# Altium footprint library Movandi_PcbLib1.PcbLib: 7 footprints
Each footprint in its own frame and in the unit in brackets; x right, y up, seen from the top. Pads: shape width x height; smd on the part's side, far side on the other; paste and mask are expansions set on the pad; w line width, h text height; cw(c..) or ccw(c..) is an arc to the next point about the centre after c.
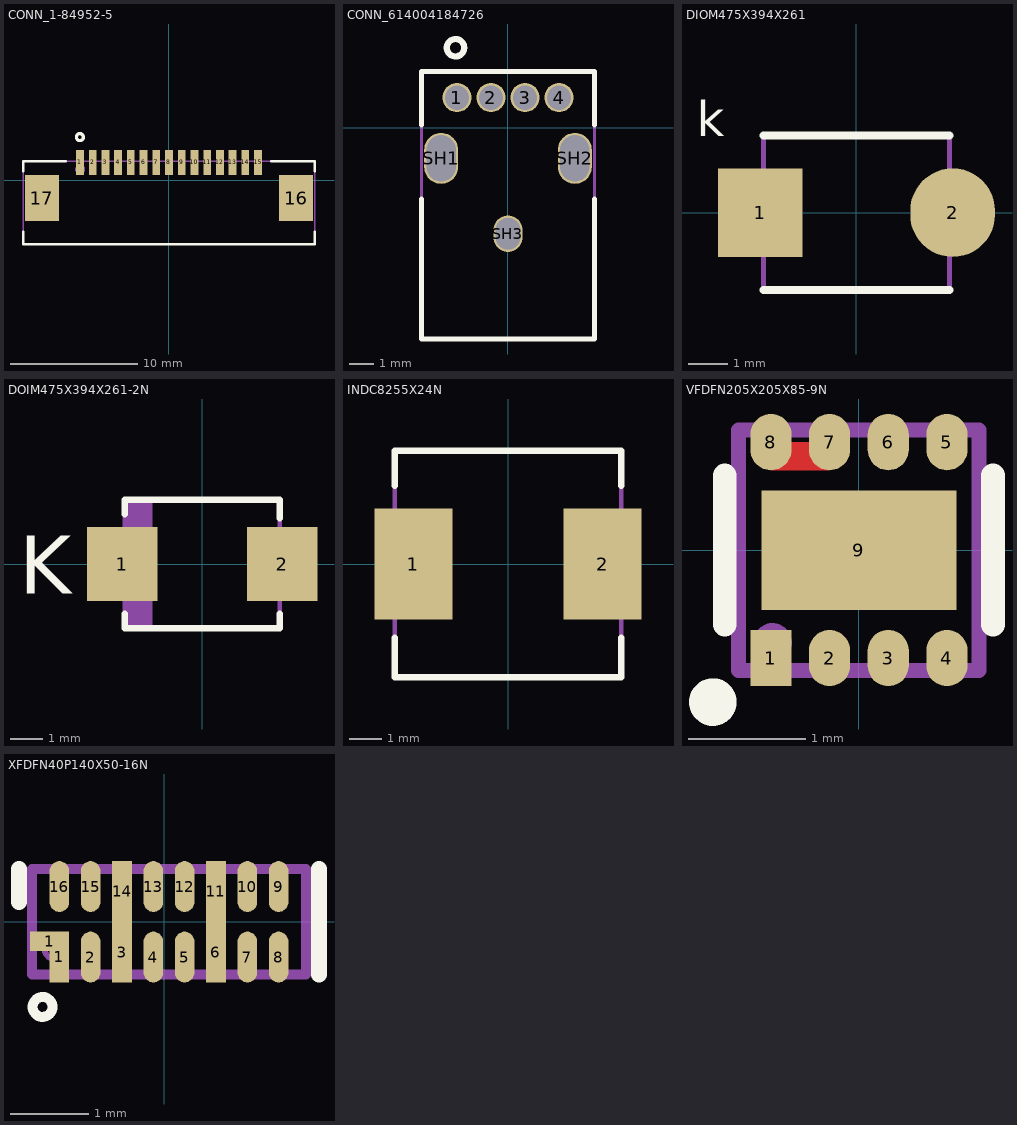
[diagram p0: the footprints below, top view; thin cyan lines are the x and y axes]

## CONN_1-84952-5 [mm]
height 2.56
pads (17):
  rect 0.61x2 smd: 1(-7,1.4) 2(-6,1.4) 3(-5,1.4) 4(-4,1.4) 5(-3,1.4) 6(-2,1.4) 7(-1,1.4) 8(0,1.4) 9(1,1.4) 10(2,1.4) 11(3,1.4) 12(4,1.4) 13(5,1.4) 14(6,1.4) 15(7,1.4)
  rect 2.68x3.6 smd: 16(9.99,-1.4) 17(-9.99,-1.4)
Top Overlay:
  circle w0.254: c-7.005,3.397 r0.274
  lines w0.203: -11.452,-4.03 -11.452,-5.037 ; -11.452,0.727 -11.452,1.495 -8.107,1.495 ; 8.058,1.495 11.458,1.495 11.458,0.727 ; 11.458,-4.03 11.458,-5.037 -11.452,-5.037 ; -11.452,-5.037 -11.452,-5.037
Outline:
  text "'.Designator'" at 0,0.191 h1.02
Courtyard Top:
  circle w0.254: c-6.987,0.86 r0.274
  lines w0.127: -11.452,-5.037 11.458,-5.037 11.458,1.495 -11.452,1.495 -11.452,-5.037 ; -11.452,-5.037 -11.452,-5.037
3D body: height 2.52, standoff -0.04, extent -11.454,-5.045 11.466,1.495

## CONN_614004184726 [mm]
height 14.2
pads (7):
  round 1.2 hole 1: 1(-2.1,1.25) 2(-0.7,1.25) 3(0.7,1.25) 4(2.1,1.25)
  oval 1.4x2.1 hole 1.2 slot 1.9 at 90 deg: SH1(-2.75,-1.25) SH2(2.75,-1.25)
  oval 1.2x1.5 hole 1 slot 1.3 at 90 deg: SH3(0,-4.35)
Top Overlay:
  circle w0.254: c-2.159,3.302 r0.359
  lines w0.203: -3.559,-2.921 -3.559,-8.682 3.559,-8.682 3.559,-2.921 ; -3.559,0.127 -3.559,2.318 3.559,2.318 3.559,0.127
Outline:
  text "'.Designator'" at 0,0.191 h1.02
Courtyard Top:
  circle w0.254: c-2.1,1.25 r0.359
  lines w0.127: -3.559,-8.682 -3.559,2.318 3.559,2.318 3.559,-8.682 -3.559,-8.682
3D body: height 14.15, standoff -2.89, extent -3.559,-8.682 3.559,2.318

## DIOM475X394X261 [mm]
height 2.61
pads (2):
  rect 2.16x2.26 smd mask+0.051: 1(-2.45,0)
  oval 2.16x2.26 smd mask+0.051: 2(2.45,0)
Top Overlay:
  lines w0.203: -2.375,-1.97 2.375,-1.97 ; -2.375,1.97 2.375,1.97
  text "k" at -4.064,1.651 h1.52
Outline:
  text ".Designator" at 0,0 h1.52
Courtyard Top:
  lines w0.127: -2.375,-1.97 2.375,-1.97 2.375,1.97 -2.375,1.97 -2.375,-1.97
  text "k" at -4.064,1.524 h1.52
3D body: height 2.61, standoff 0, extent -2.375,-1.97 2.375,1.97

## DOIM475X394X261-2N [mm]
height 2.61
pads (2):
  rect 2.16x2.26 smd: 1(-2.45,0) 2(2.45,0)
Top Overlay:
  lines w0.203: -2.375,-1.524 -2.375,-1.97 2.375,-1.97 2.375,-1.524 ; -2.375,1.524 -2.375,1.97 2.375,1.97 2.375,1.397
  text "K" at -5.613,-0.914 h1.78
Outline:
  text "'.Designator'" at 0,0 h1.52
Courtyard Top:
  rectangle: -2.375,-1.97 -1.524,1.97
  lines w0.127: -2.375,-1.97 -2.375,1.97 2.375,1.97 2.375,-1.97 -2.375,-1.97
3D body: height 2.61, standoff 0.1, extent -2.375,-1.97 2.375,1.97

## INDC8255X24N [mil]
height 94.49
pads (2):
  rect 95x135 smd: 1(-115,0) 2(115,0)
Top Overlay:
  lines w8: -137.8,-90 -137.8,-137.8 137.8,-137.8 137.8,-90 ; -137.8,95 -137.8,137.8 137.8,137.8 137.8,95
Outline:
  text "'.Designator'" at 0,0 h60
Courtyard Top:
  lines w5: -137.8,-137.8 -137.8,137.8 137.8,137.8 137.8,-137.8 -137.8,-137.8
3D body: height 94.49, standoff 0, extent -137.8,-137.8 137.8,137.8

## VFDFN205X205X85-9N [mm]
height 0.85
pads (9):
  rect 0.35x0.48 smd mask+0.025: 1(-0.75,-0.92)
  oval 0.35x0.48 smd mask+0.025: 2(-0.25,-0.92) 3(0.25,-0.92) 4(0.75,-0.92) 5(0.75,0.92) 6(0.25,0.92) 7(-0.25,0.92) 8(-0.75,0.92)
  rect 1.66x1.02 smd mask+0.051: 9(0,0)
Top Layer:
  rectangle: -0.75,0.68 -0.25,0.92
Top Overlay:
  circle w0.203: c-1.245,-1.295 r0.102
  lines w0.203: -1.143,-0.635 -1.143,0.635 ; 1.143,-0.635 1.143,0.635
Top Solder:
  rectangle: -0.772,0.654 -0.275,0.942
Outline:
  text "'.Designator'" at 0,0.002 h1.52
Courtyard Top:
  circle w0.127: c-0.737,-0.787 r0.102
  lines w0.127: -1.025,-1.025 -1.025,1.025 1.025,1.025 1.025,-1.025 -1.025,-1.025
3D body: height 0.85, standoff 0, extent -1.025,-1.025 1.025,1.025

## XFDFN40P140X50-16N [mm] "SON, 16-Leads, Body 3.50x1.35mm, Pitch 0.40mm, IPC Medium Density"
height 0.5
pads (17):
  rect 0.5x0.25 smd mask+0.064: 1(-1.463,-0.249)
  rect 0.25x0.65 smd mask+0.064: 1(-1.338,-0.449)
  oval 0.25x0.65 smd mask+0.064: 2(-0.937,-0.45) 4(-0.137,-0.45) 5(0.263,-0.45) 7(1.063,-0.45) 8(1.463,-0.45) 9(1.463,0.45) 10(1.063,0.45) 12(0.263,0.45) 13(-0.137,0.45) 15(-0.937,0.45) 16(-1.337,0.45)
  rect 0.25x0.775 smd mask+0.064: 3(-0.537,-0.387) 6(0.663,-0.387) 11(0.663,0.388) 14(-0.537,0.388)
Top Overlay:
  circle w0.127: c-1.552,-1.087 r0.127
  lines w0.203: -1.852,0.254 -1.852,0.675 ; 1.978,-0.675 1.978,0.675
Outline:
  text "'.Designator'" at 0,0 h1.52
Courtyard Top:
  circle w0.076: c-1.399,-0.345 r0.127
  lines w0.127: -1.687,-0.675 -1.687,0.675 1.813,0.675 1.813,-0.675 -1.687,-0.675
3D body: height -0.41, standoff -0.91, extent -1.687,-0.676 1.813,0.676